# Altium schematic symbol library 2020-07-15_01-39-57.SchLib: 2 symbols
Pins are listed as number, name and electrical type; pins without a type are passive.

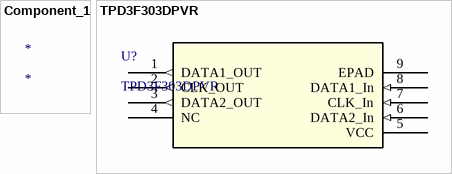
[diagram p0: symbols Component_1 to TPD3F303DPVR]

## Component_1
designator *

## TPD3F303DPVR
designator U?
EMI Filter with Integrated VCC Clamp for SIM Card Interface; Vendor: Texas Instruments; PACKAGE_DESIGNATOR: DPV; PIN_COUNT: 8; FAMILY_NAME: EMI Solution; INDUSTRY_STD_PKG_TYPE: USON; Manufacturer_Part_Number: TPD3F303DPVR; GENERIC_PART_NUMBER: TPD3F303; Datasheet_URL: http://www.ti.com/lit/gpn/TPD3F303; Manufacturer: Texas Instruments; Copyright: Copyright (C) 2018 Accelerated Designs. All rights reserved; RefDes: RefDes; Type: DEV
footprint DPV8_1P7X0P4
pins: 1 DATA1_OUT (out), 2 CLK_OUT (out), 3 DATA2_OUT (out), 4 NC, 5 VCC (power), 6 DATA2_In (in), 7 CLK_In (in), 8 DATA1_In (in), 9 EPAD